# EAGLE library part MSP430F54* (library Texas Instruments)
MIXED SIGNAL MICROCONTROLLER Auto generated by make-symbol-device-package-bsdl.ulp Rev. 27 Source: www.ti.com .. msp430f5437.pdf
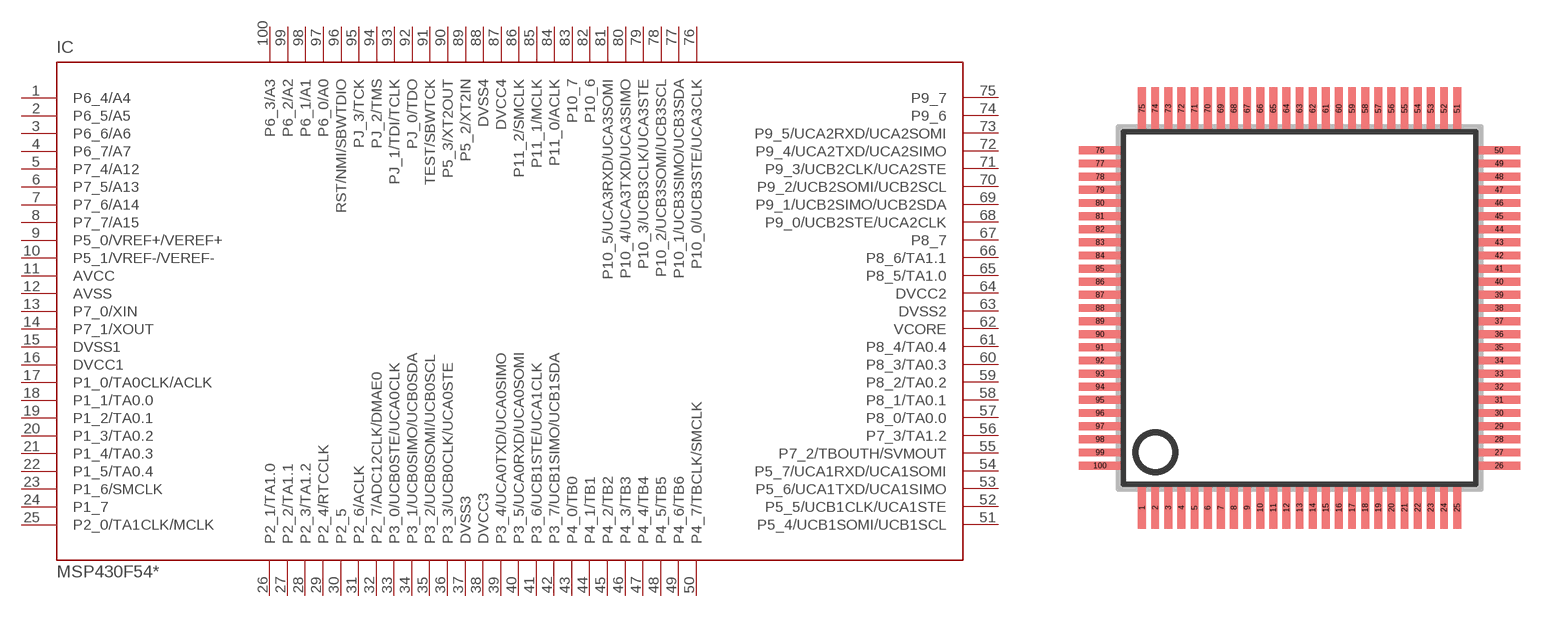
[diagram p77: symbol with the pads of PZ_S-PQFP-G100; footprint PZ_S-PQFP-G100]

Designator prefix IC

## MSP430F5419 (MPN: MSP430F5419IPZR; OC_FARNELL: 1740335; OC_NEWARK: 12P7733), MSP430F5419A (OC_FARNELL: unknown; OC_NEWARK: unknown), MSP430F5436 (MPN: MSP430F5436IPZ; OC_FARNELL: 1740338; OC_NEWARK: 86R1301), MSP430F5436A (MPN: MSP430F5436AIPZ; OC_FARNELL: 1740338; OC_NEWARK: 68R9298), MSP430F5438 (MPN: MSP430F5438IPZ; OC_FARNELL: 1740340; OC_NEWARK: 77R3126), MSP430F5438A (MPN: MSP430F5438AIPZ; OC_FARNELL: unknown; OC_NEWARK: 68R9304)  [PZ_S-PQFP-G100]
1  P6_4/A4
2  P6_5/A5
3  P6_6/A6
4  P6_7/A7
5  P7_4/A12
6  P7_5/A13
7  P7_6/A14
8  P7_7/A15
9  P5_0/VREF+/VEREF+
10  P5_1/VREF-/VEREF-
11  AVCC  pwr
12  AVSS  pwr
13  P7_0/XIN
14  P7_1/XOUT
15  DVSS1  pwr
16  DVCC1  pwr
17  P1_0/TA0CLK/ACLK
18  P1_1/TA0.0
19  P1_2/TA0.1
20  P1_3/TA0.2
21  P1_4/TA0.3
22  P1_5/TA0.4
23  P1_6/SMCLK
24  P1_7
25  P2_0/TA1CLK/MCLK
26  P2_1/TA1.0
27  P2_2/TA1.1
28  P2_3/TA1.2
29  P2_4/RTCCLK
30  P2_5
31  P2_6/ACLK
32  P2_7/ADC12CLK/DMAE0
33  P3_0/UCB0STE/UCA0CLK
34  P3_1/UCB0SIMO/UCB0SDA
35  P3_2/UCB0SOMI/UCB0SCL
36  P3_3/UCB0CLK/UCA0STE
37  DVSS3  pwr
38  DVCC3  pwr
39  P3_4/UCA0TXD/UCA0SIMO
40  P3_5/UCA0RXD/UCA0SOMI
41  P3_6/UCB1STE/UCA1CLK
42  P3_7/UCB1SIMO/UCB1SDA
43  P4_0/TB0
44  P4_1/TB1
45  P4_2/TB2
46  P4_3/TB3
47  P4_4/TB4
48  P4_5/TB5
49  P4_6/TB6
50  P4_7/TBCLK/SMCLK
51  P5_4/UCB1SOMI/UCB1SCL
52  P5_5/UCB1CLK/UCA1STE
53  P5_6/UCA1TXD/UCA1SIMO
54  P5_7/UCA1RXD/UCA1SOMI
55  P7_2/TBOUTH/SVMOUT
56  P7_3/TA1.2
57  P8_0/TA0.0
58  P8_1/TA0.1
59  P8_2/TA0.2
60  P8_3/TA0.3
61  P8_4/TA0.4
62  VCORE  pwr
63  DVSS2  pwr
64  DVCC2  pwr
65  P8_5/TA1.0
66  P8_6/TA1.1
67  P8_7
68  P9_0/UCB2STE/UCA2CLK
69  P9_1/UCB2SIMO/UCB2SDA
70  P9_2/UCB2SOMI/UCB2SCL
71  P9_3/UCB2CLK/UCA2STE
72  P9_4/UCA2TXD/UCA2SIMO
73  P9_5/UCA2RXD/UCA2SOMI
74  P9_6
75  P9_7
76  P10_0/UCB3STE/UCA3CLK
77  P10_1/UCB3SIMO/UCB3SDA
78  P10_2/UCB3SOMI/UCB3SCL
79  P10_3/UCB3CLK/UCA3STE
80  P10_4/UCA3TXD/UCA3SIMO
81  P10_5/UCA3RXD/UCA3SOMI
82  P10_6
83  P10_7
84  P11_0/ACLK
85  P11_1/MCLK
86  P11_2/SMCLK
87  DVCC4  pwr
88  DVSS4  pwr
89  P5_2/XT2IN
90  P5_3/XT2OUT
91  TEST/SBWTCK  in
92  PJ_0/TDO
93  PJ_1/TDI/TCLK
94  PJ_2/TMS
95  PJ_3/TCK
96  RST/NMI/SBWTDIO
97  P6_0/A0
98  P6_1/A1
99  P6_2/A2
100  P6_3/A3

## Footprint PZ_S-PQFP-G100 (pad centres in mm)
QFP100 Source: www.ti.com .. msp430f5437.pdf
smd 0.3 x 1.6: 1 -6,-7.6; 2 -5.5,-7.6; 3 -5,-7.6; 4 -4.5,-7.6; 5 -4,-7.6; 6 -3.5,-7.6; 7 -3,-7.6; 8 -2.5,-7.6; 9 -2,-7.6; 10 -1.5,-7.6; 11 -1,-7.6; 12 -0.5,-7.6; 13 0,-7.6; 14 0.5,-7.6; 15 1,-7.6; 16 1.5,-7.6; 17 2,-7.6; 18 2.5,-7.6; 19 3,-7.6; 20 3.5,-7.6; 21 4,-7.6; 22 4.5,-7.6; 23 5,-7.6; 24 5.5,-7.6; 25 6,-7.6; 51 6,7.6; 52 5.5,7.6; 53 5,7.6; 54 4.5,7.6; 55 4,7.6; 56 3.5,7.6; 57 3,7.6; 58 2.5,7.6; 59 2,7.6; 60 1.5,7.6; 61 1,7.6; 62 0.5,7.6; 63 0,7.6; 64 -0.5,7.6; 65 -1,7.6; 66 -1.5,7.6; 67 -2,7.6; 68 -2.5,7.6; 69 -3,7.6; 70 -3.5,7.6; 71 -4,7.6; 72 -4.5,7.6; 73 -5,7.6; 74 -5.5,7.6; 75 -6,7.6
smd 1.6 x 0.3: 26 7.6,-6; 27 7.6,-5.5; 28 7.6,-5; 29 7.6,-4.5; 30 7.6,-4; 31 7.6,-3.5; 32 7.6,-3; 33 7.6,-2.5; 34 7.6,-2; 35 7.6,-1.5; 36 7.6,-1; 37 7.6,-0.5; 38 7.6,0; 39 7.6,0.5; 40 7.6,1; 41 7.6,1.5; 42 7.6,2; 43 7.6,2.5; 44 7.6,3; 45 7.6,3.5; 46 7.6,4; 47 7.6,4.5; 48 7.6,5; 49 7.6,5.5; 50 7.6,6; 76 -7.6,6; 77 -7.6,5.5; 78 -7.6,5; 79 -7.6,4.5; 80 -7.6,4; 81 -7.6,3.5; 82 -7.6,3; 83 -7.6,2.5; 84 -7.6,2; 85 -7.6,1.5; 86 -7.6,1; 87 -7.6,0.5; 88 -7.6,0; 89 -7.6,-0.5; 90 -7.6,-1; 91 -7.6,-1.5; 92 -7.6,-2; 93 -7.6,-2.5; 94 -7.6,-3; 95 -7.6,-3.5; 96 -7.6,-4; 97 -7.6,-4.5; 98 -7.6,-5; 99 -7.6,-5.5; 100 -7.6,-6